# Altium footprint library PZ_PCBLIB_21Z.PcbLib: 17 footprints (part 1 of 2)
Each footprint in its own frame and in the unit in brackets; x right, y up, seen from the top. Pads: shape width x height; smd on the part's side, far side on the other; paste and mask are expansions set on the pad; w line width, h text height; cw(c..) or ccw(c..) is an arc to the next point about the centre after c.
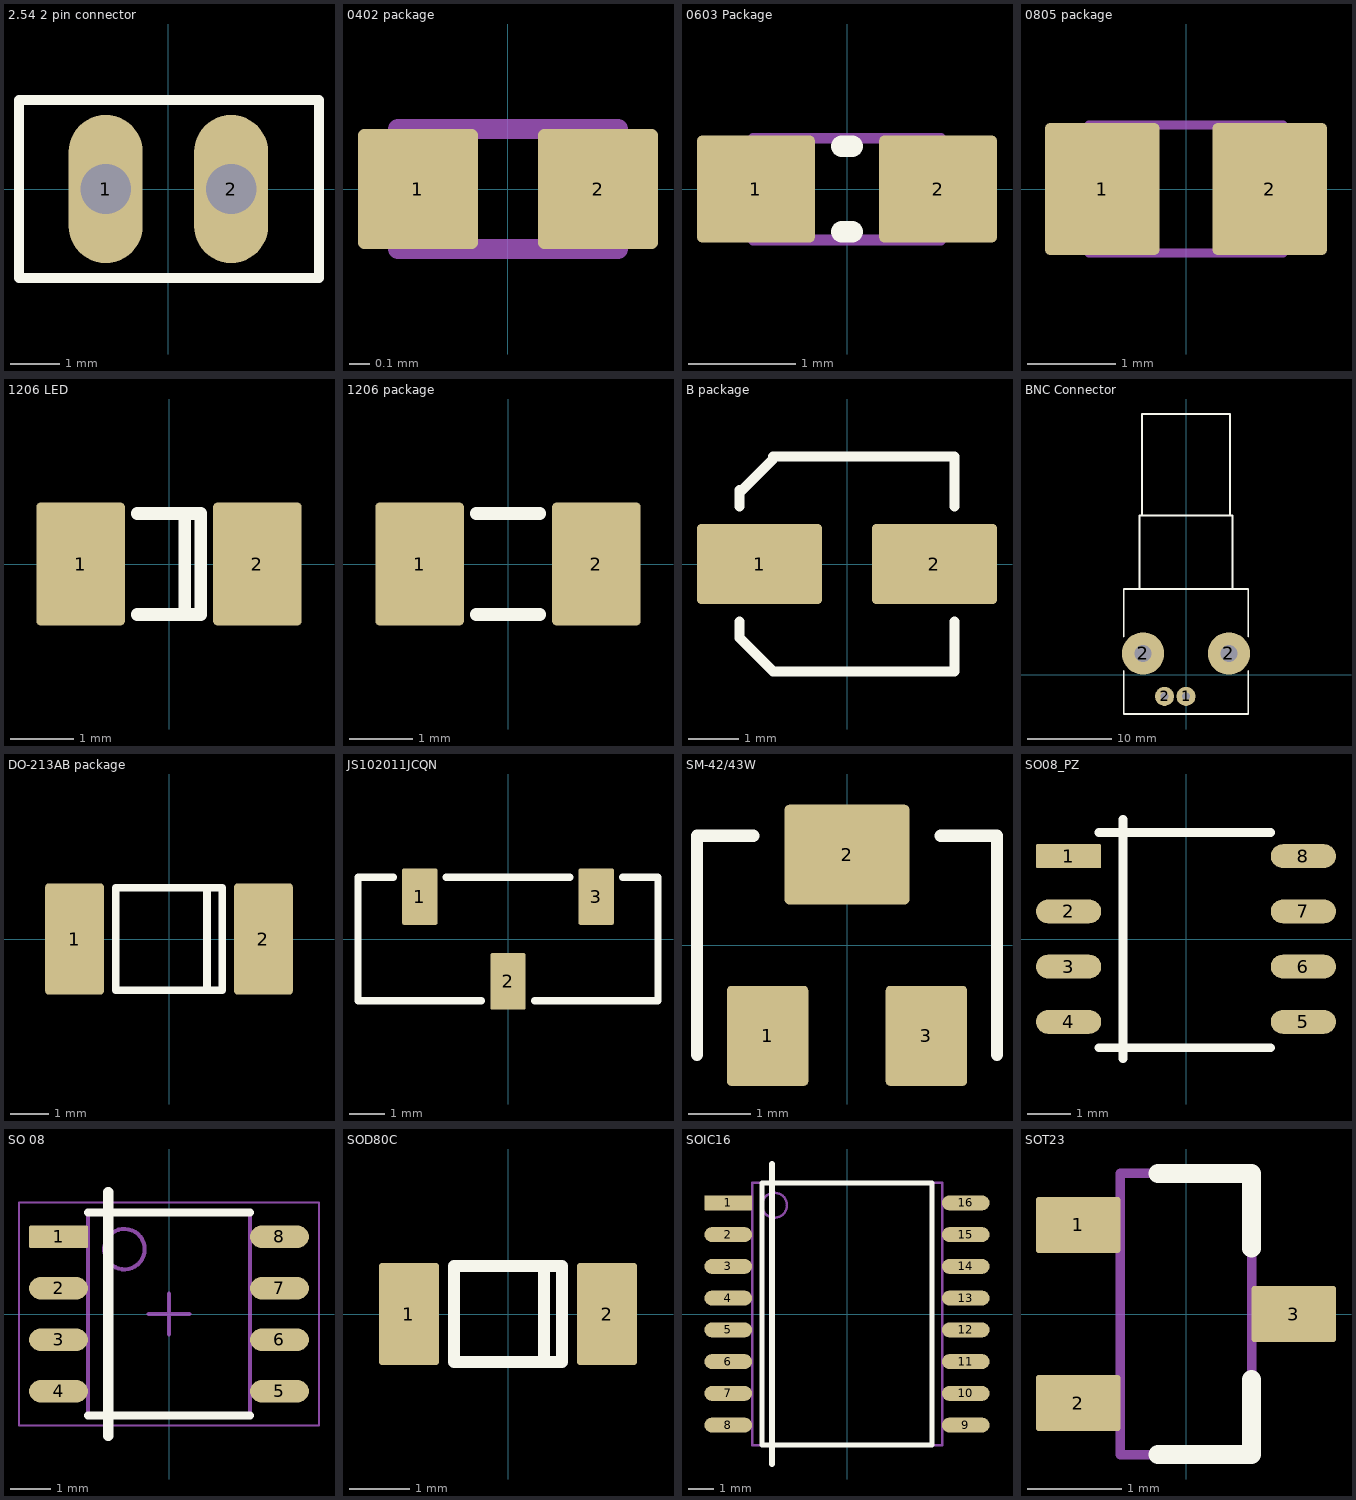
[diagram p0: the footprints below, top view; thin cyan lines are the x and y axes]

## 2.54 2 pin connector [mm]
pads (2):
  oval 1.5x3 hole 1.02: 1(-1.27,0) 2(1.27,0)
Top Overlay:
  lines w0.2: -3.025,-1.8 3.05,-1.8 3.05,1.8 -3.025,1.8 -3.025,-1.8
3D body: height 11.3, standoff -2.79, extent 0.95,-0.32 1.59,0.32
3D body: height 11.3, standoff -2.79, extent -1.59,-0.32 -0.95,0.32
3D body: height 2.54, standoff 0, extent -3.04,-1.52 3.04,1.52

## 0402 package [mm] "Chip Resistor, 2-Leads, Body 1,00x0,50mm, IPC Medium Density"
height 0.6
pads (2):
  rrect10% 0.6x0.6 smd: 1(-0.45,0) 2(0.45,0)
Mechanical 13:
  lines w0.1: -0.55,-0.3 -0.55,0.3 0.55,0.3 0.55,-0.3 -0.55,-0.3
3D body: height 0.6, standoff 0, extent -0.35,-0.3 0.35,0.3
3D body: height 0.6, standoff 0, extent -0.55,-0.3 -0.35,0.3
3D body: height 0.6, standoff 0, extent 0.35,-0.3 0.55,0.3

## 0603 Package [mm]
height 0.85
pads (2):
  rrect10% 1.1x1 smd: 1(-0.85,0) 2(0.85,0)
Top Overlay:
  lines w0.2: -0.05,-0.4 0.05,-0.4 ; -0.05,0.4 0.05,0.4
Mechanical 13:
  lines w0.1: -0.875,-0.475 -0.875,0.475 0.875,0.475 0.875,-0.475 -0.875,-0.475
3D body: height 0.85, standoff 0, extent -0.625,-0.475 0.625,0.475
3D body: height 0.85, standoff 0, extent -0.875,-0.475 -0.625,0.475
3D body: height 0.85, standoff 0, extent 0.625,-0.475 0.875,0.475

## 0805 package [mm]
height 1.1
pads (2):
  rrect10% 1.3x1.5 smd: 1(-0.95,0) 2(0.95,0)
Mechanical 13:
  lines w0.1: -1.1,-0.725 -1.1,0.725 1.1,0.725 1.1,-0.725 -1.1,-0.725
3D body "0805 package.step": height 1.1, standoff 0, extent -1.1,-0.725 1.1,0.725

## 1206 LED [mm]
pads (2):
  rrect10% 1.4x1.95 smd: 1(-1.4,0) 2(1.4,0)
Top Overlay:
  lines w0.2: -0.5,-0.8 0.5,-0.8 0.5,0.8 0,0.8 -0.5,0.8 ; 0.25,-0.75 0.25,0.8
3D body: height 0.4, standoff 0, extent -0.8,-0.75 0.8,0.75
3D body: height 0.25, standoff 0, extent -1.4,-0.8 1.4,0.8

## 1206 package [mm]
pads (2):
  rrect10% 1.4x1.95 smd: 1(-1.4,0) 2(1.4,0)
Top Overlay:
  lines w0.2: -0.5,-0.8 0.5,-0.8 ; -0.5,0.8 0,0.8 0.5,0.8
3D body: height 0.55, standoff 0.1, extent -1.4,-0.8 1.4,0.8

## B package [mm]
pads (2):
  rrect10% 2.5x1.6 smd: 1(-1.75,0) 2(1.75,0)
Top Overlay:
  lines w0.2: -2.15,-1.15 -2.15,-1.425 -2.15,-1.475 -1.5,-2.125 ; -2.15,1.15 -2.15,1.425 ; -2.15,1.475 -2.15,1.425 ; -1.475,-2.15 0,-2.15 2.15,-2.15 2.15,-1.15 ; 2.15,1.15 2.15,2.15 0,2.15 -1.475,2.15 -1.475,2.1 -2.15,1.425
3D body: height 0.4, standoff 0, extent -2.15,-2.15 2.15,2.15
3D body: height 5.8, standoff 0, extent -2,-2 2,2

## BNC Connector [mm]
pads (4):
  round 2.25 hole 0.9: 1(0,-2.54) 2(-2.54,-2.54)
  round 5 hole 2: 2(-5.08,2.54) 2(5.08,2.54)
Top Overlay:
  lines w0.2: -7.35,0.5 -7.35,-4.625 ; -7.35,4.525 -7.35,10.175 ; 0,-4.625 -7.35,-4.625 ; 7.35,0.5 7.35,0 7.35,-4.625 -7.35,-4.625 ; 7.35,4.5 7.35,10.175 ; -7.35,10.175 -5.5,10.175 ; -7.35,10.175 -5.5,10.175 ; -7.35,10.175 7.35,10.175 ; -5.5,10.175 -5.5,18.875 ; -5.5,18.875 -5.2,18.875 -5.2,30.875 5.2,30.875 5.2,18.875 5.5,18.875 ; -5.5,18.875 5.5,18.875 ; 5.5,18.875 5.5,10.175 7.35,10.175
3D body: height 13.2, standoff 2.6, extent -5.297,18.875 5.297,30.875
3D body: height 15.8, standoff 0, extent -7.35,-4.625 7.35,10.175
3D body: height 13.4, standoff 2.4, extent -5.5,10.175 5.5,18.875

## DO-213AB package [mm]
pads (2):
  rrect10% 1.54x2.92 smd: 1(-2.485,0) 2(2.485,0)
Top Overlay:
  lines w0.2: -0.6,1.35 1.4,1.35 ; 1,-1.35 1,1.35 ; 1.4,1.35 1.4,-1.35 -0.6,-1.35 -1.4,-1.35 -1.4,1.35 1.4,1.35
3D body: height 2.55, standoff 0, extent -2.5,-1.205 2.5,1.35

## JS102011JCQN [mm]
pads (3):
  rrect10% 1x1.6 smd: 1(-2.5,1.2) 2(0,-1.2) 3(2.5,1.2)
Top Overlay:
  lines w0.2: -3.25,1.75 -4.25,1.75 -4.25,-1.75 -0.75,-1.75 ; -1.75,1.75 1.75,1.75 ; 0.75,-1.75 4.25,-1.75 4.25,1.75 3.25,1.75
3D body: height 3.5, standoff 0, extent -4.25,-1.75 4.25,1.75
3D body: height 5.5, standoff 0, extent -1.5,-0.75 0,0.75

## SM-42/43W [mm]
pads (3):
  rrect10% 1.3x1.6 smd: 1(-1.27,-1.45) 3(1.27,-1.45)
  rrect10% 2x1.6 smd: 2(0,1.45)
Top Overlay:
  lines w0.2: -2.4,-1.75 -2.4,1.75 -1.5,1.75 ; 1.5,1.75 2.4,1.75 2.4,-1.75
3D body: height 5.1, standoff 0.1, extent -2.4,-1.75 2.4,1.75
3D body: height 5.3, standoff 0.1, extent 0.481,-0.173 1.975,1.324

## SO08_PZ [mm] "SO-8 Package"
height 1.75
pads (8):
  rrect10% 1.5x0.55 smd: 1(-2.7,1.905)
  rrect100% 1.5x0.55 smd: 2(-2.7,0.635) 3(-2.7,-0.635) 4(-2.7,-1.905) 5(2.7,-1.905) 6(2.7,-0.635) 7(2.7,0.635) 8(2.7,1.905)
Top Overlay:
  lines w0.2: -2,-2.5 1.95,-2.5 ; -2,2.45 1.95,2.45 ; -1.45,-2.75 -1.45,2.75
3D body: height 0.25, standoff 0, extent -2,-2.45 2,2.45

## SO 08 [mm] "SOIC, 8-Leads, Body 4,90x3,90mm, Pitch 1,27mm, IPC Medium Density"
height 1.75
pads (8):
  rrect10% 1.45x0.55 smd: 1(-2.725,1.905)
  oval 1.45x0.55 smd: 2(-2.725,0.635) 3(-2.725,-0.635) 4(-2.725,-1.905) 5(2.725,-1.905) 6(2.725,-0.635) 7(2.725,0.635) 8(2.725,1.905)
Top Overlay:
  lines w0.2: -2,-2.5 2,-2.5 ; -2,2.5 2,2.5
  lines w0.254: -1.5,-3 -1.5,3
Mechanical 13:
  circle w0.1: c-1.1,1.6 r0.5
  lines w0.1: -2,-2.5 2,-2.5 2,2.5 -2,2.5 -2,-2.5
Mechanical 15:
  lines w0.05: -3.7,-2.75 3.7,-2.75 3.7,2.75 -3.7,2.75 -3.7,-2.75
  lines w0.1: -0.5,0 0.5,0 ; 0,-0.5 0,0.5
3D body "SOIC 8.step": height 1.75, standoff 0, extent -3,-2.5 3,2.5

## SOD80C [mm]
pads (2):
  rrect10% 1x1.7 smd: 1(-1.65,0) 2(1.65,0)
Top Overlay:
  lines w0.2: 0.6,-0.8 0.6,0.8 ; -0.9,-0.8 -0.9,0.8 0.9,0.8 0.9,-0.8 -0.9,-0.8
3D body: height 1.59, standoff 0, extent -1.65,-0.798 1.65,0.798

## SOIC16 [mm] "SOIC, 16-Leads, Body 10,30x7,50mm, Pitch 1,27mm, IPC Medium Density"
height 2.65
pads (16):
  rrect10% 1.9x0.6 smd: 1(-4.75,4.445)
  oval 1.9x0.6 smd: 2(-4.75,3.175) 3(-4.75,1.905) 4(-4.75,0.635) 5(-4.75,-0.635) 6(-4.75,-1.905) 7(-4.75,-3.175) 8(-4.75,-4.445) 9(4.75,-4.445) 10(4.75,-3.175) 11(4.75,-1.905) 12(4.75,-0.635) 13(4.75,0.635) 14(4.75,1.905) 15(4.75,3.175) 16(4.75,4.445)
Top Overlay:
  lines w0.2: -3.4,-5.25 -3.4,5.25 3.4,5.25 3.4,-5.25 -3.4,-5.25
  lines w0.254: -3,-6 -3,5.5 -3,6
Mechanical 13:
  circle w0.1: c-2.9,4.35 r0.5
  lines w0.1: -3.8,-5.25 -3.8,5.25 3.8,5.25 3.8,-5.25 -3.8,-5.25
3D body: height 0.25, standoff 0, extent -5.162,-5.25 5.162,5.25

## SOT23 [mm] "SOT23, 3-Leads, Body 2,90x2,30mm, Pitch 0,95mm, IPC Medium Density"
height 1.1
pads (3):
  rrect10% 0.9x0.6 smd: 1(-1.15,0.95) 2(-1.15,-0.95) 3(1.15,0)
Top Overlay:
  lines w0.2: -0.3,-1.5 0.7,-1.5 0.7,-0.7 ; -0.3,1.5 0.7,1.5 0.7,0.7
Mechanical 13:
  lines w0.1: -0.7,-1.5 0.7,-1.5 0.7,1.5 -0.7,1.5 -0.7,-1.5
3D body "SOT95P230X110-3N.step": height 1.1, standoff 0, extent -1.25,-1.5 1.25,1.5